# EAGLE library part ATTINY85-20SUR (library VMS564S)
8-bit Microcontroller with In-System Programmable Flash
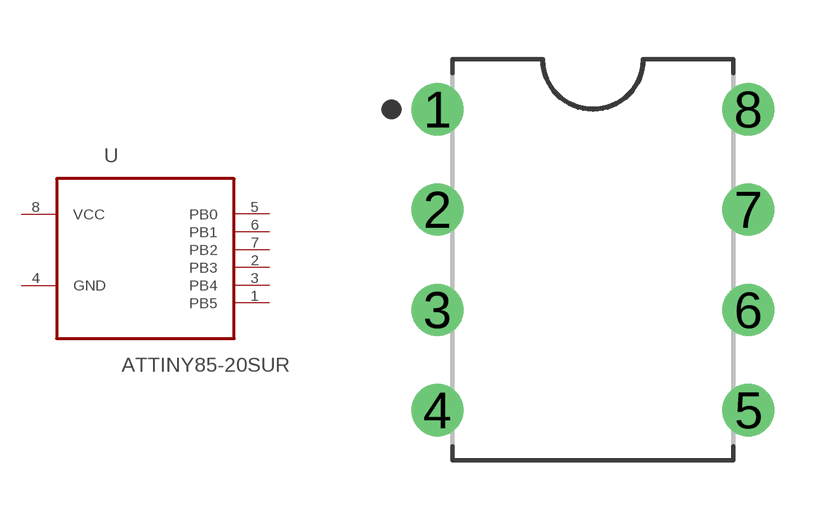
[diagram p0: symbol with the pads of ATTINY85-DIP; footprint ATTINY85-DIP]

Designator prefix U

## ATTINY85-20SUR8P3  [ATTINY85-DIP]
1  PB5
2  PB3
3  PB4
4  GND  pas
5  PB0
6  PB1
7  PB2
8  VCC  pwr

## Footprint ATTINY85-DIP (pad centres in mm)
8-DIP, 2.54 mm (0.10 in) pitch, 7.87 mm (0.31 in) span, 9.59 X 6.60 X 5.33 mm body 8-pin DIP package with 2.54 mm (0.10 in) pitch, 7.87 mm (0.31 in) span with body size 9.59 X 6.60 X 5.33 mm
drill 0.723 pad 1.323: 1 -3.937,3.81; 2 -3.937,1.27; 3 -3.937,-1.27; 4 -3.937,-3.81; 5 3.937,-3.81; 6 3.937,-1.27; 7 3.937,1.27; 8 3.937,3.81